# Altium schematic symbol library Relay.SchLib: 5 symbols
Pins are listed as number, name and electrical type; pins without a type are passive.

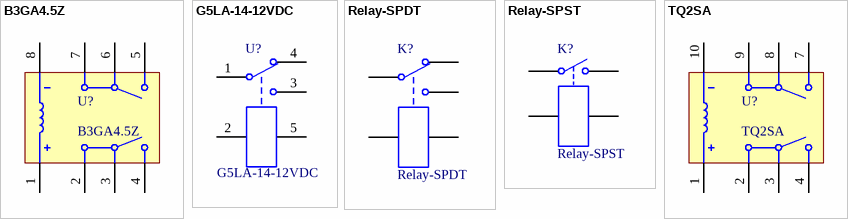
[diagram p0: symbols B3GA4.5Z to TQ2SA]

## B3GA4.5Z
designator U?
footprint B3GA4.5Z
footprint AGN2004H
pins: 1, 2, 3, 4, 5, 6, 7, 8

## G5LA-14-12VDC
designator U?
footprint G5LA-14
pins: 1, 2, 3, 4, 5

## Relay-SPDT
designator K?
Generic Single-Pole Dual-Throw Relay
footprint RELAY
pins: 1, 2, 3, 4, 5

## Relay-SPST
designator K?
Single-Pole Single-Throw Relay
footprint RELAY
pins: 1, 3, 4, 5

## TQ2SA
designator U?
footprint TQ2
pins: 1, 2, 3, 4, 7, 8, 9, 10